# Altium footprint library LED.PcbLib: 11 footprints
Each footprint in its own frame and in the unit in brackets; x right, y up, seen from the top. Pads: shape width x height; smd on the part's side, far side on the other; paste and mask are expansions set on the pad; w line width, h text height; cw(c..) or ccw(c..) is an arc to the next point about the centre after c.
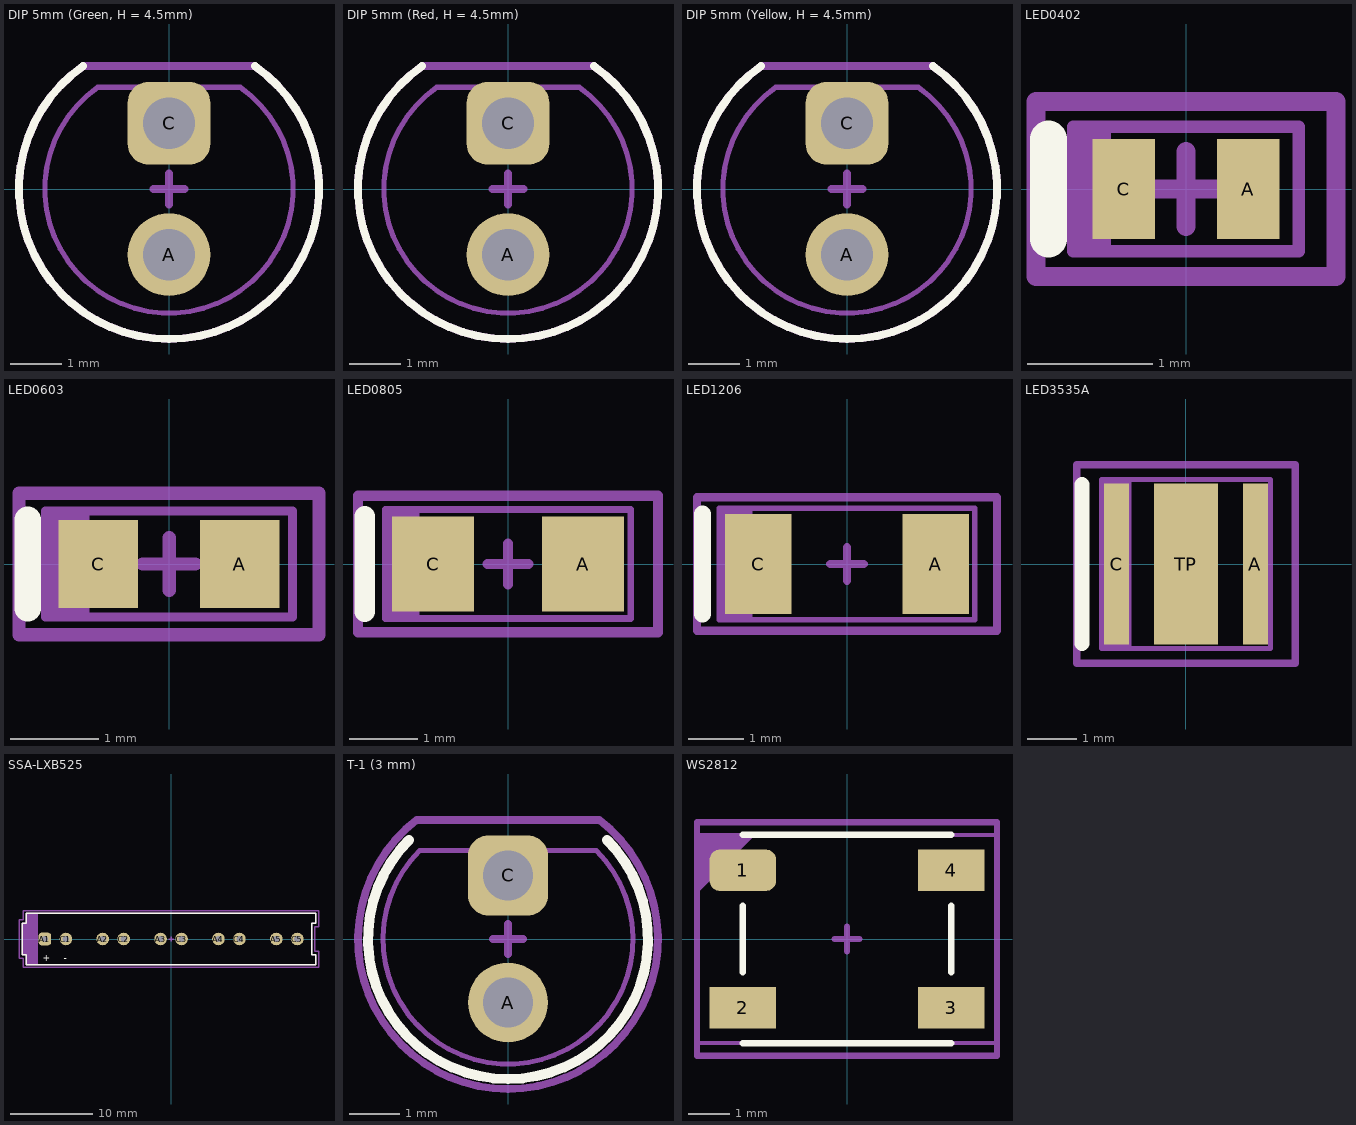
[diagram p0: the footprints below, top view; thin cyan lines are the x and y axes]

## DIP 5mm (Green, H = 4.5mm) [mm]
pads (2):
  round 1.6 hole 1: A(0,-1.27)
  rrect50% 1.6x1.6 hole 1: C(0,1.27)
Top Overlay:
  lines w0.153: -1.663,2.376 ccw(c0,0) 1.663,2.376
Top Assembly:
  lines w0.1: -1.377,1.966 ccw(c0,0) 1.377,1.966 -1.377,1.966
  text "'.Designator'" at -4.532,-0.333 h0.8
Top Courtyard:
  lines w0.153: -0.3,0 0.3,0 ; 0,-0.3 0,0.3 ; -1.663,2.376 ccw(c0,0) 1.663,2.376 -1.663,2.376
3D body "5mm_led_green.STEP": height 9.3, standoff -5.5, extent -2.894,-2.9 2.894,2.4

## DIP 5mm (Red, H = 4.5mm) [mm]
pads (2):
  round 1.6 hole 1: A(0,-1.27)
  rrect50% 1.6x1.6 hole 1: C(0,1.27)
Top Overlay:
  lines w0.153: -1.663,2.376 ccw(c0,0) 1.663,2.376
Top Assembly:
  lines w0.1: -1.377,1.966 ccw(c0,0) 1.377,1.966 -1.377,1.966
  text "'.Designator'" at -4.532,-0.333 h0.8
Top Courtyard:
  lines w0.153: -0.3,0 0.3,0 ; 0,-0.3 0,0.3 ; -1.663,2.376 ccw(c0,0) 1.663,2.376 -1.663,2.376
3D body "5mm_led_red.STEP": height 9.3, standoff -5.5, extent -2.894,-2.9 2.894,2.4

## DIP 5mm (Yellow, H = 4.5mm) [mm]
pads (2):
  round 1.6 hole 1: A(0,-1.27)
  rrect50% 1.6x1.6 hole 1: C(0,1.27)
Top Overlay:
  lines w0.153: -1.663,2.376 ccw(c0,0) 1.663,2.376
Top Assembly:
  lines w0.1: -1.377,1.966 ccw(c0,0) 1.377,1.966 -1.377,1.966
  text "'.Designator'" at -4.532,-0.333 h0.8
Top Courtyard:
  lines w0.153: -0.3,0 0.3,0 ; 0,-0.3 0,0.3 ; -1.663,2.376 ccw(c0,0) 1.663,2.376 -1.663,2.376
3D body "5mm_led_yellow.STEP": height 9.3, standoff -5.5, extent -2.894,-2.9 2.894,2.4

## LED0402 [mm]
pads (2):
  rect 0.5x0.8 smd: A(0.5,0) C(-0.5,0)
Top Overlay:
  lines w0.3: -1.1,-0.4 -1.1,0.4
Top Assembly:
  rectangle: -0.9,-0.5 -0.6,0.5
  lines w0.1: -0.9,-0.5 0.9,-0.5 0.9,0.5 -0.9,0.5 -0.9,-0.5
  text "'.Designator'" at -4.532,-0.333 h0.8
Top Courtyard:
  lines w0.153: -0.3,0 0.3,0 ; 0,-0.3 0,0.3 ; -1.2,-0.7 1.2,-0.7 1.2,0.7 -1.2,0.7 -1.2,-0.7
3D body "0402 Amber.step": height 0.35, standoff 0, extent -0.5,-0.25 0.5,0.25

## LED0603 [mm]
pads (2):
  rect 0.9x1 smd: A(0.8,0) C(-0.8,0)
Top Overlay:
  lines w0.3: -1.6,-0.5 -1.6,0.5
Top Assembly:
  rectangle: -1.4,-0.6 -0.9,0.6
  lines w0.1: -1.4,-0.6 -1.4,0.6 1.4,0.6 1.4,-0.6 -1.4,-0.6
  text "'.Designator'" at -4.532,-0.333 h0.8
Top Courtyard:
  lines w0.153: -0.3,0 0.3,0 ; 0,-0.3 0,0.3 ; -1.7,-0.8 -1.7,0.8 1.7,0.8 1.7,-0.8 -1.7,-0.8
3D body "0603 Amber.step": height 0.55, standoff 0, extent -0.8,-0.4 0.8,0.4

## LED0805 [mm]
pads (2):
  rect 1.2x1.4 smd: A(1.1,0) C(-1.1,0)
Top Overlay:
  lines w0.3: -2.1,-0.7 -2.1,0.7
Top Assembly:
  rectangle: -1.8,-0.8 -1.3,0.8
  lines w0.1: -1.8,-0.8 1.8,-0.8 1.8,0.8 -1.8,0.8 -1.8,-0.8
  text "'.Designator'" at -4.532,-0.333 h0.8
Top Courtyard:
  lines w0.153: -0.3,0 0.3,0 ; 0,-0.3 0,0.3 ; -2.2,-1 2.2,-1 2.2,1 -2.2,1 -2.2,-1
3D body "0805 Amber.step": height 0.78, standoff 0, extent -1,-0.625 1,0.625

## LED1206 [mm]
pads (2):
  rect 1.2x1.8 smd: A(1.6,0) C(-1.6,0)
Top Overlay:
  lines w0.3: -2.6,-0.9 -2.6,0.9
Top Assembly:
  rectangle: -2.3,-1 -1.7,1
  lines w0.1: -2.3,-1 -2.3,1 2.3,1 2.3,-1 -2.3,-1
  text "'.Designator'" at -4.532,-0.333 h0.8
Top Courtyard:
  lines w0.153: -0.3,0 0.3,0 ; 0,-0.3 0,0.3 ; -2.7,-1.2 2.7,-1.2 2.7,1.2 -2.7,1.2 -2.7,-1.2
3D body "SMD LED -1206.step": height 1.1, standoff 0, extent -1.6,-0.8 1.6,0.8

## LED3535A [mm]
pads (3):
  rect 0.5x3.25 smd: A(1.4,0) C(-1.4,0)
  rect 1.3x3.25 smd paste-2539.97: TP(0,0)
Top Overlay:
  lines w0.3: -2.1,-1.6 -2.1,1.6
Top Paste:
  rectangle: -0.575,-1.375 0.575,-0.625
  rectangle: -0.575,0.625 0.575,1.375
  rectangle: -0.575,-0.375 0.575,0.375
Top Assembly:
  rectangle: -1.7,-1.7 -1.1,1.7
  lines w0.1: -1.7,-1.7 -1.7,1.7 1.7,1.7 1.7,-1.7 -1.7,-1.7
  text "'.Designator'" at -4.532,-0.333 h0.8
Top Courtyard:
  lines w0.153: -0.3,0 0.3,0 ; 0,-0.3 0,0.3 ; -2.2,-2 2.2,-2 2.2,2 -2.2,2 -2.2,-2
3D body "SST20_A120.STEP": height 1.98, standoff 0, extent -1.725,-1.725 1.725,1.725

## SSA-LXB525 [mil]
pads (10):
  rrect50% 60x60 hole 30: A1(-601.18,0)
  round 60 hole 30: A2(-325.59,0) A3(-50,0) A4(225.59,0) A5(501.18,0) C1(-501.18,0) C2(-225.59,0) C3(50,0) C4(325.59,0) C5(601.18,0)
Top Overlay:
  lines w6.02: -708.66,-74.8 -708.66,74.8 -688.98,74.8 -688.98,122.05 688.98,122.05 688.98,74.8 669.29,74.8 669.29,-74.8 688.98,-74.8 688.98,-122.05 -688.98,-122.05 -688.98,-74.8 -708.66,-74.8
  text "-" at -511.68,-106.29 h31.5
  text "+" at -611.68,-106.29 h31.5
Top Assembly:
  rectangle: -688.98,-122.05 -633.86,122.05
  rectangle: -708.66,-74.8 -661.42,74.8
  lines w6.02: -708.66,-74.8 -688.98,-74.8 -688.98,-122.05 688.98,-122.05 688.98,-74.8 669.29,-74.8 669.29,74.8 688.98,74.8 688.98,122.05 -688.98,122.05 -688.98,74.8 -708.66,74.8 -708.66,-74.8
  text "'.Designator'" at -178.42,-13.12 h31.5
  text "+" at -611.68,-106.29 h31.5
  text "-" at -511.68,-106.29 h31.5
Top Courtyard:
  lines w6.02: -11.81,0 11.81,0 ; 0,-11.81 0,11.81 ; -724.41,-90.55 -704.72,-90.55 -704.72,-133.86 704.72,-133.86 704.72,-59.06 685.04,-59.06 685.04,59.06 704.72,59.06 704.72,133.86 -704.72,133.86 -704.72,90.55 -724.41,90.55 -724.41,-90.55
3D body "User Library-lumex ssa-lxb525gd.STEP": height 330.71, standoff -984.25, extent -708.47,-120.08 689.17,120.08

## T-1 (3 mm) [mm]
pads (2):
  round 1.6 hole 1: A(0,-1.27)
  rrect50% 1.6x1.6 hole 1: C(0,1.27)
Top Overlay:
  lines w0.2: -1.98,1.98 ccw(c0,0) 1.98,1.98
Top Assembly:
  lines w0.1: -1.768,1.768 ccw(c0,0) 1.768,1.768 -1.768,1.768
  text "'.Designator'" at -4.532,-0.333 h0.8
Top Courtyard:
  lines w0.153: -0.3,0 0.3,0 ; 0,-0.3 0,0.3 ; -1.826,2.38 ccw(c0,0) 1.826,2.38 -1.826,2.38
3D body "LED DIP 3MM.step": height 5.8, standoff -1.6, extent -1.898,-1.9 1.898,1.6

## WS2812 [mm]
pads (4):
  rrect50% 1.6x1 smd: 1(-2.5,1.65)
  rect 1.6x1 smd: 2(-2.5,-1.65) 3(2.5,-1.65) 4(2.5,1.65)
Top Overlay:
  lines w0.153: -2.5,-2.5 2.5,-2.5 ; -2.5,-0.8 -2.5,0.8 ; -2.5,2.5 2.5,2.5 ; 2.5,-0.8 2.5,0.8
Top Assembly:
  circle w0.4: c-2.1,1.6 r0.2
  region: -3.6,2.5 -3.6,1.1 -2.2,2.5
  lines w0.1: -3.6,-2.5 -3.6,2.5 3.6,2.5 3.6,-2.5 -3.6,-2.5
  text "'.Designator'" at -4.532,-0.333 h0.8
Top Courtyard:
  lines w0.153: -0.3,0 0.3,0 ; 0,-0.3 0,0.3 ; -3.6,-2.8 3.6,-2.8 3.6,2.8 -3.6,2.8 -3.6,-2.8
3D body "User Library-WS2812B.STEP": height 1.68, standoff -0.02, extent -2.7,-2.5 2.7,2.5